# Altium schematic symbol library MOSFET-BJT-SMD.SchLib: 2 symbols
Pins are listed as number, name and electrical type; pins without a type are passive.

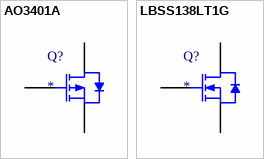
[diagram p0: symbols AO3401A to LBSS138LT1G]

## AO3401A
designator Q?
30V 4A 44mΩ@10V,4.3A 1.4W 1.3V@250uA P Channel SOT-23-3L MOSFETs ROHS
footprint SOT-23
pins: 1 GATE, 2 SOURCE, 3 DRAIN

## LBSS138LT1G
designator Q?
50V 200mA 225mW 3.5Ω@5V,200mA 1.5V@1mA N Channel SOT-23(SOT-23-3) MOSFETs ROHS
footprint SOT-23
pins: 1 GATE, 2 SOURCE, 3 DRAIN